# EAGLE library part SN74CBT3383PW (library range_cape)
10-BIT FET BUS-EXCHANGE SWITCHES
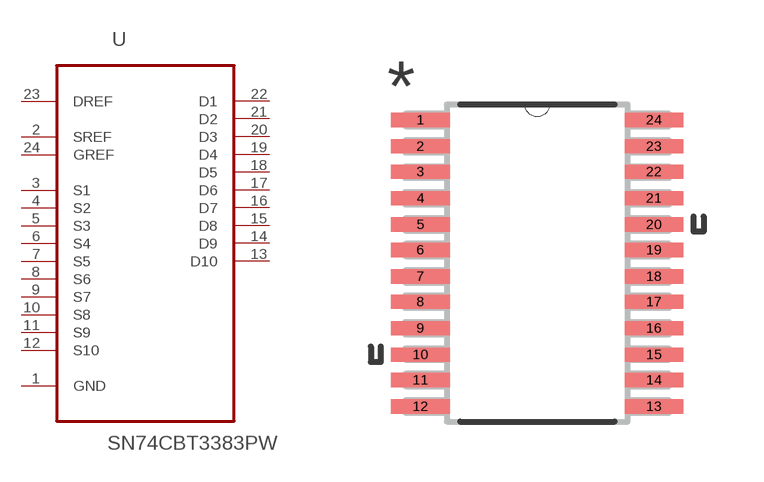
[diagram p7: symbol with the pads of SOP65P640X120-24N; footprint SOP65P640X120-24N]

Designator prefix U

## SN74CBT3383PW (MPN: SN74CBT3383PW; OC_FARNELL: 1741489; OC_NEWARK: 50R6333; PACKAGE: TSSOP-24; SUPPLIER: Texas Instruments)  [SOP65P640X120-24N]
1  GND  pas
2  SREF  in
3  S1
4  S2
5  S3
6  S4
7  S5
8  S6
9  S7
10  S8
11  S9
12  S10
13  D10
14  D9
15  D8
16  D7
17  D6
18  D5
19  D4
20  D3
21  D2
22  D1
23  DREF  pwr
24  GREF  in

## Footprint SOP65P640X120-24N (pad centres in mm)
smd 1.473 x 0.356: 1 -2.921,3.581; 2 -2.921,2.921; 3 -2.921,2.286; 4 -2.921,1.626; 5 -2.921,0.965; 6 -2.921,0.33; 7 -2.921,-0.33; 8 -2.921,-0.965; 9 -2.921,-1.626; 10 -2.921,-2.286; 11 -2.921,-2.921; 12 -2.921,-3.581; 13 2.921,-3.581; 14 2.921,-2.921; 15 2.921,-2.286; 16 2.921,-1.626; 17 2.921,-0.965; 18 2.921,-0.33; 19 2.921,0.33; 20 2.921,0.965; 21 2.921,1.626; 22 2.921,2.286; 23 2.921,2.921; 24 2.921,3.581